# Altium integrated library RF Inductors-RFH_rev16a.intlib: 17 symbols
Pins are listed as number, name and electrical type; pins without a type are passive.

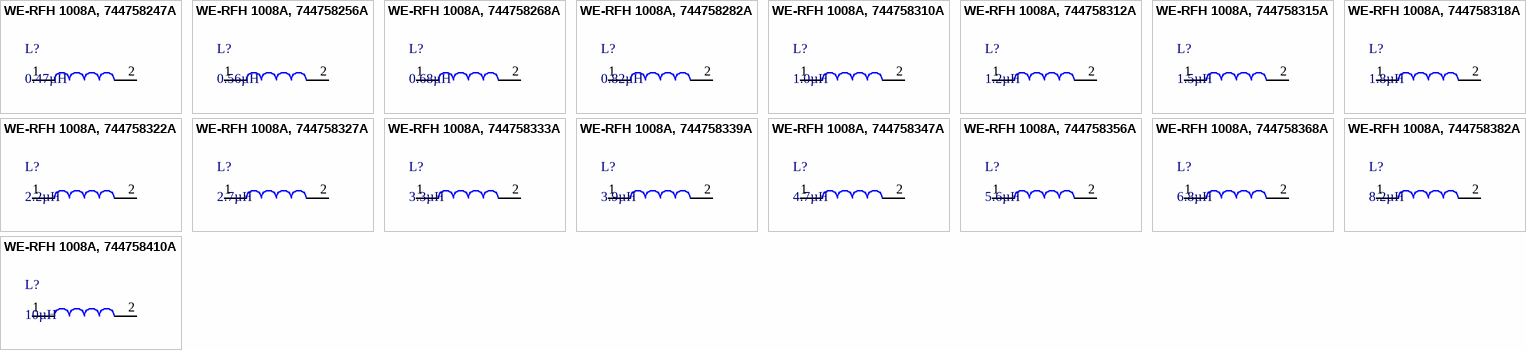
[diagram p0: symbols WE-RFH 1008A, 744758247A to WE-RFH 1008A, 744758410A]

## WE-RFH 1008A, 744758247A
designator L?, comment 0.47µH
WE-RFH Ferrite SMD Inductor, L= 0.47µH; partNo: 744758247A; Manufacturer: Wurth Elektronik; Inductance: 0.47µH; ComponentLink1Description: Manufacturer; ComponentLink1URL: http://www.we-online.de; Created by: Baojun Chen; Created Date: Jan.2016; ComponentLink2Description: Datasheet; ComponentLink2URL: http://katalog.we-online.de/pbs/datasheet/744758247A.pdf
footprint WE-RFH_1008A
pins: 1, 2

## WE-RFH 1008A, 744758256A
designator L?, comment 0.56µH
WE-RFH Ferrite SMD Inductor, L= 0.56µH; partNo: 744758256A; Manufacturer: Wurth Elektronik; Inductance: 0.56µH; ComponentLink1Description: Manufacturer; ComponentLink1URL: http://www.we-online.de; Created by: Baojun Chen; Created Date: Jan.2016; ComponentLink2Description: Datasheet; ComponentLink2URL: http://katalog.we-online.de/pbs/datasheet/744758256A.pdf
footprint WE-RFH_1008A
pins: 1, 2

## WE-RFH 1008A, 744758268A
designator L?, comment 0.68µH
WE-RFH Ferrite SMD Inductor, L= 0.68µH; partNo: 744758268A; Manufacturer: Wurth Elektronik; Inductance: 0.68µH; ComponentLink1Description: Manufacturer; ComponentLink1URL: http://www.we-online.de; Created by: Baojun Chen; Created Date: Jan.2016; ComponentLink2Description: Datasheet; ComponentLink2URL: http://katalog.we-online.de/pbs/datasheet/744758268A.pdf
footprint WE-RFH_1008A
pins: 1, 2

## WE-RFH 1008A, 744758282A
designator L?, comment 0.82µH
WE-RFH Ferrite SMD Inductor, L= 0.82µH; partNo: 744758282A; Manufacturer: Wurth Elektronik; Inductance: 0.82µH; ComponentLink1Description: Manufacturer; ComponentLink1URL: http://www.we-online.de; Created by: Baojun Chen; Created Date: Jan.2016; ComponentLink2Description: Datasheet; ComponentLink2URL: http://katalog.we-online.de/pbs/datasheet/744758282A.pdf
footprint WE-RFH_1008A
pins: 1, 2

## WE-RFH 1008A, 744758310A
designator L?, comment 1.0µH
WE-RFH Ferrite SMD Inductor, L= 1.0µH; partNo: 744758310A; Manufacturer: Wurth Elektronik; Inductance: 1.0µH; ComponentLink1Description: Manufacturer; ComponentLink1URL: http://www.we-online.de; Created by: Baojun Chen; Created Date: Jan.2016; ComponentLink2Description: Datasheet; ComponentLink2URL: http://katalog.we-online.de/pbs/datasheet/744758310A.pdf
footprint WE-RFH_1008A
pins: 1, 2

## WE-RFH 1008A, 744758312A
designator L?, comment 1.2µH
WE-RFH Ferrite SMD Inductor, L= 1.2µH; partNo: 744758312A; Manufacturer: Wurth Elektronik; Inductance: 1.2µH; ComponentLink1Description: Manufacturer; ComponentLink1URL: http://www.we-online.de; Created by: Baojun Chen; Created Date: Jan.2016; ComponentLink2Description: Datasheet; ComponentLink2URL: http://katalog.we-online.de/pbs/datasheet/744758312A.pdf
footprint WE-RFH_1008A
pins: 1, 2

## WE-RFH 1008A, 744758315A
designator L?, comment 1.5µH
WE-RFH Ferrite SMD Inductor, L= 1.5µH; partNo: 744758315A; Manufacturer: Wurth Elektronik; Inductance: 1.5µH; ComponentLink1Description: Manufacturer; ComponentLink1URL: http://www.we-online.de; Created by: Baojun Chen; Created Date: Jan.2016; ComponentLink2Description: Datasheet; ComponentLink2URL: http://katalog.we-online.de/pbs/datasheet/744758315A.pdf
footprint WE-RFH_1008A
pins: 1, 2

## WE-RFH 1008A, 744758318A
designator L?, comment 1.8µH
WE-RFH Ferrite SMD Inductor, L= 1.8µH; partNo: 744758318A; Manufacturer: Wurth Elektronik; Inductance: 1.8µH; ComponentLink1Description: Manufacturer; ComponentLink1URL: http://www.we-online.de; Created by: Baojun Chen; Created Date: Jan.2016; ComponentLink2Description: Datasheet; ComponentLink2URL: http://katalog.we-online.de/pbs/datasheet/744758318A.pdf
footprint WE-RFH_1008A
pins: 1, 2

## WE-RFH 1008A, 744758322A
designator L?, comment 2.2µH
WE-RFH Ferrite SMD Inductor, L= 2.2µH; partNo: 744758322A; Manufacturer: Wurth Elektronik; Inductance: 2.2µH; ComponentLink1Description: Manufacturer; ComponentLink1URL: http://www.we-online.de; Created by: Baojun Chen; Created Date: Jan.2016; ComponentLink2Description: Datasheet; ComponentLink2URL: http://katalog.we-online.de/pbs/datasheet/744758322A.pdf
footprint WE-RFH_1008A
pins: 1, 2

## WE-RFH 1008A, 744758327A
designator L?, comment 2.7µH
WE-RFH Ferrite SMD Inductor, L= 2.7µH; partNo: 744758327A; Manufacturer: Wurth Elektronik; Inductance: 2.7µH; ComponentLink1Description: Manufacturer; ComponentLink1URL: http://www.we-online.de; Created by: Baojun Chen; Created Date: Jan.2016; ComponentLink2Description: Datasheet; ComponentLink2URL: http://katalog.we-online.de/pbs/datasheet/744758327A.pdf
footprint WE-RFH_1008A
pins: 1, 2

## WE-RFH 1008A, 744758333A
designator L?, comment 3.3µH
WE-RFH Ferrite SMD Inductor, L= 3.3µH; partNo: 744758333A; Manufacturer: Wurth Elektronik; Inductance: 3.3µH; ComponentLink1Description: Manufacturer; ComponentLink1URL: http://www.we-online.de; Created by: Baojun Chen; Created Date: Jan.2016; ComponentLink2Description: Datasheet; ComponentLink2URL: http://katalog.we-online.de/pbs/datasheet/744758333A.pdf
footprint WE-RFH_1008A
pins: 1, 2

## WE-RFH 1008A, 744758339A
designator L?, comment 3.9µH
WE-RFH Ferrite SMD Inductor, L= 3.9µH; partNo: 744758339A; Manufacturer: Wurth Elektronik; Inductance: 3.9µH; ComponentLink1Description: Manufacturer; ComponentLink1URL: http://www.we-online.de; Created by: Baojun Chen; Created Date: Jan.2016; ComponentLink2Description: Datasheet; ComponentLink2URL: http://katalog.we-online.de/pbs/datasheet/744758339A.pdf
footprint WE-RFH_1008A
pins: 1, 2

## WE-RFH 1008A, 744758347A
designator L?, comment 4.7µH
WE-RFH Ferrite SMD Inductor, L= 4.7µH; partNo: 744758347A; Manufacturer: Wurth Elektronik; Inductance: 4.7µH; ComponentLink1Description: Manufacturer; ComponentLink1URL: http://www.we-online.de; Created by: Baojun Chen; Created Date: Jan.2016; ComponentLink2Description: Datasheet; ComponentLink2URL: http://katalog.we-online.de/pbs/datasheet/744758347A.pdf
footprint WE-RFH_1008A
pins: 1, 2

## WE-RFH 1008A, 744758356A
designator L?, comment 5.6µH
WE-RFH Ferrite SMD Inductor, L= 5.6µH; partNo: 744758356A; Manufacturer: Wurth Elektronik; Inductance: 5.6µH; ComponentLink1Description: Manufacturer; ComponentLink1URL: http://www.we-online.de; Created by: Baojun Chen; Created Date: Jan.2016; ComponentLink2Description: Datasheet; ComponentLink2URL: http://katalog.we-online.de/pbs/datasheet/744758356A.pdf
footprint WE-RFH_1008A
pins: 1, 2

## WE-RFH 1008A, 744758368A
designator L?, comment 6.8µH
WE-RFH Ferrite SMD Inductor, L= 6.8µH; partNo: 744758368A; Manufacturer: Wurth Elektronik; Inductance: 6.8µH; ComponentLink1Description: Manufacturer; ComponentLink1URL: http://www.we-online.de; Created by: Baojun Chen; Created Date: Jan.2016; ComponentLink2Description: Datasheet; ComponentLink2URL: http://katalog.we-online.de/pbs/datasheet/744758368A.pdf
footprint WE-RFH_1008A
pins: 1, 2

## WE-RFH 1008A, 744758382A
designator L?, comment 8.2µH
WE-RFH Ferrite SMD Inductor, L= 8.2µH; partNo: 744758382A; Manufacturer: Wurth Elektronik; Inductance: 8.2µH; ComponentLink1Description: Manufacturer; ComponentLink1URL: http://www.we-online.de; Created by: Baojun Chen; Created Date: Jan.2016; ComponentLink2Description: Datasheet; ComponentLink2URL: http://katalog.we-online.de/pbs/datasheet/744758382A.pdf
footprint WE-RFH_1008A
pins: 1, 2

## WE-RFH 1008A, 744758410A
designator L?, comment 10µH
WE-RFH Ferrite SMD Inductor, L= 10µH; partNo: 744758410A; Manufacturer: Wurth Elektronik; Inductance: 10µH; ComponentLink1Description: Manufacturer; ComponentLink1URL: http://www.we-online.de; Created by: Baojun Chen; Created Date: Jan.2016; ComponentLink2Description: Datasheet; ComponentLink2URL: http://katalog.we-online.de/pbs/datasheet/744758410A.pdf
footprint WE-RFH_1008A
pins: 1, 2